# Altium footprint library PCB - POWER - FDSM_SIP-3.PCBLIB: 1 footprints
Each footprint in its own frame and in the unit in brackets; x right, y up, seen from the top. Pads: shape width x height; smd on the part's side, far side on the other; paste and mask are expansions set on the pad; w line width, h text height; cw(c..) or ccw(c..) is an arc to the next point about the centre after c.
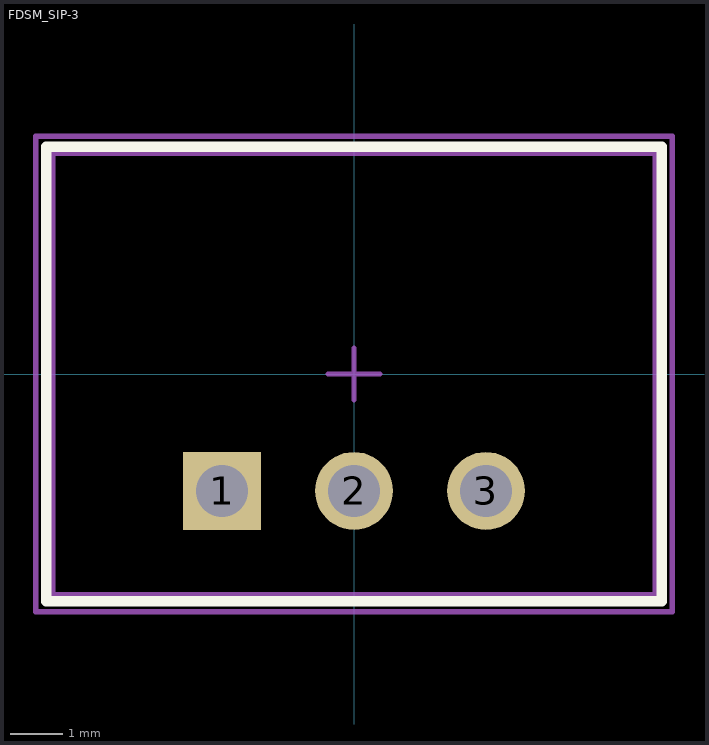
[diagram p0: the footprint, top view; thin cyan lines are the x and y axes]

## FDSM_SIP-3 [mm] "Fixed Step Down Regulator Module, SIP-3"
height 10.75
pads (3):
  rect 1.5x1.5 hole 1: 1(-2.54,-2.25)
  round 1.5 hole 1: 2(0,-2.25) 3(2.54,-2.25)
Top Overlay:
  lines w0.2: -5.925,-4.375 -5.925,4.375 5.925,4.375 5.925,-4.375 -5.925,-4.375
Top Assembly:
  lines w0.1: -5.925,-4.375 5.925,-4.375 5.925,4.375 -5.925,4.375 -5.925,-4.375
Top Courtyard:
  lines w0.1: -6.125,-4.575 6.125,-4.575 6.125,4.575 -6.125,4.575 -6.125,-4.575
Top Designator:
  text ".Designator" at -6.096,5.715 h1
Top Component Center:
  lines w0.1: -0.5,0 0.5,0 ; 0,-0.5 0,0.5 ; -5.8,-4.25 -5.8,4.25 5.8,4.25 5.8,-4.25 -5.8,-4.25
Top Value (Mech13):
  text ".Comment" at -6.096,4.826 h1
3D body "173xxxx78.stp": height 10.55, standoff -3.95, extent -5.8,-4.25 5.8,4.25